# Altium schematic symbol library Demo.SchLib: 20 symbols
Pins are listed as number, name and electrical type; pins without a type are passive.

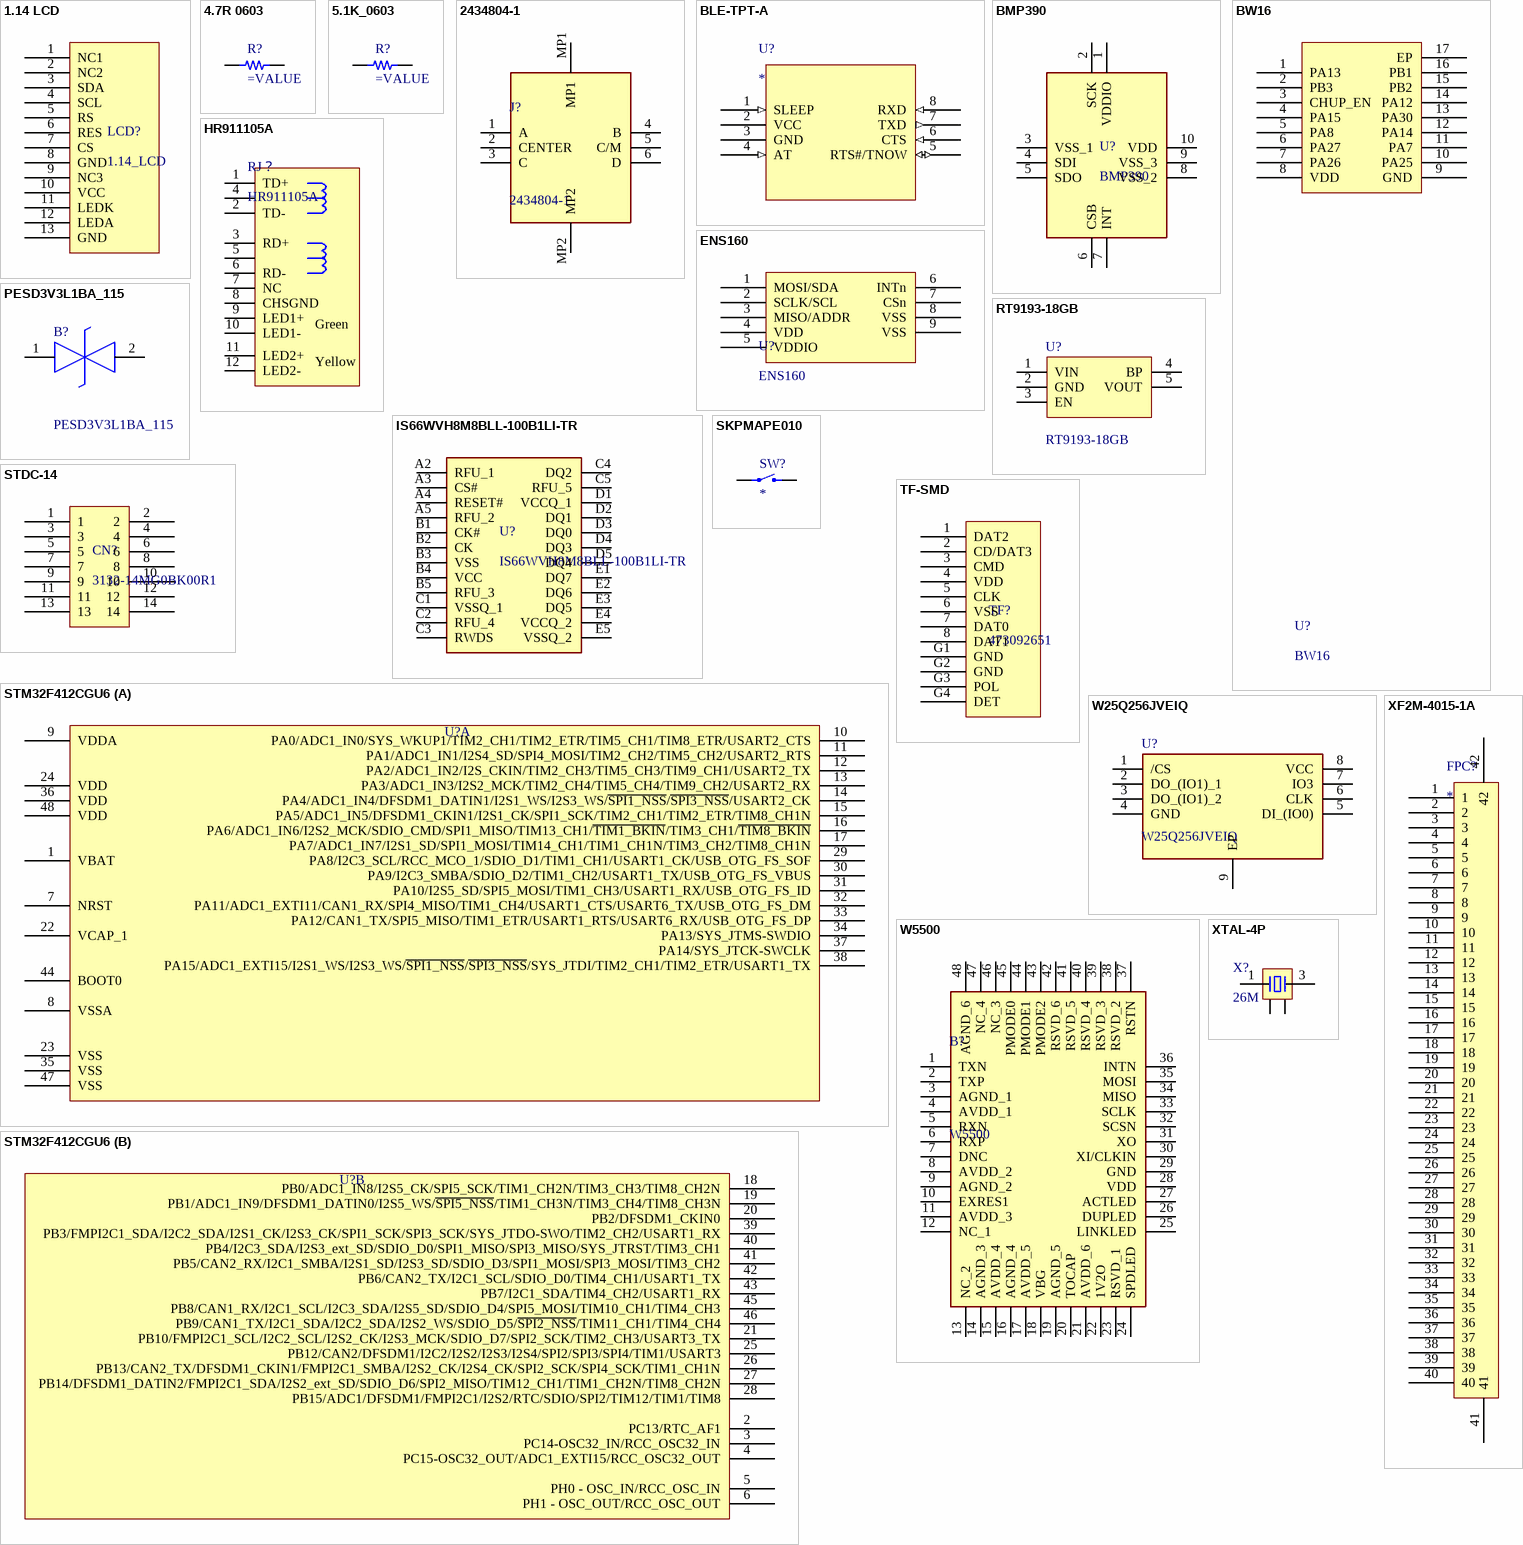
[diagram p0: symbols 1.14 LCD to XTAL-4P]

## 1.14 LCD
designator LCD?, comment 1.14_LCD
footprint 1.14_LCD
pins: 1 NC1, 2 NC2, 3 SDA, 4 SCL, 5 RS, 6 RES, 7 CS, 8 GND, 9 NC3, 10 VCC, 11 LEDK, 12 LEDA, 13 GND

## 4.7R 0603
designator R?
SMT Resistor
footprint 4.7R (Footprint not found)
pins: 1, 2

## 5.1K_0603
designator R?
SMT Resistor
footprint 5.1K_0603
pins: 1, 2

## 2434804-1
designator J?
Tactile Switches, Extended, Top Actuator Style, NO, Stainless Steel, Silver, Low Profile, 50 mA, 12 VDC; Manufacturer_Name: TE Connectivity; Geometry.Height: 5.7mm; Manufacturer_Part_Number: 2434804-1; Mouser Part Number: 655-2434804-1; Mouser Price/Stock: https://www.mouser.co.uk/ProductDetail/TE-Connectivity-Alcoswitch/2434804-1?qs=amGC7iS6iy%2Ff1nJtCucIMQ%3D%3D; Arrow Part Number: *; Arrow Price/Stock: *; Datasheet Link: https://www.te.com/commerce/DocumentDelivery/DDEController?Action=showdoc&DocId=Customer+Drawing%7F2434804%7FA%7Fpdf%7FEnglish%7FENG_CD_2434804_A.pdf%7F2434804-1
footprint 24348041
pins: 1 A, 2 CENTER, 3 C, 4 B, 5 C/M, 6 D, MP1, MP2

## BLE-TPT-A
designator U?
BLE/UART transparent transmission module, 8 pins
footprint BLEMOD-R1-1v1-8PIN
pins: 1 SLEEP (in), 2 VCC (power), 3 GND (power), 4 AT (in), 5 RTS#/TNOW (io), 6 CTS (in), 7 TXD (out), 8 RXD (in)

## BMP390
designator U?
Board Mount Pressure Sensors
footprint BMP390
pins: 1 VDDIO, 2 SCK, 3 VSS_1, 4 SDI, 5 SDO, 6 CSB, 7 INT, 8 VSS_2, 9 VSS_3, 10 VDD

## BW16
designator U?
footprint BW16
pins: 1 PA13, 2 PB3, 3 CHUP_EN, 4 PA15, 5 PA8, 6 PA27, 7 PA26, 8 VDD, 9 GND, 10 PA25, 11 PA7, 12 PA14, 13 PA30, 14 PA12, 15 PB2, 16 PB1, 17 EP

## ENS160
designator U?
footprint ENS_160
pins: 1 MOSI/SDA, 2 SCLK/SCL, 3 MISO/ADDR, 4 VDD, 5 VDDIO, 6 INTn, 7 CSn, 8 VSS, 9 VSS

## HR911105A
designator RJ？
带灯以太网接口; 版权归属: 源创客; BOM名称: 带灯以太网接口; 学习资源: www.ooocke.com
footprint RJ-45A12 (网线接口)
pins: 1 TD+, 2 TD-, 3 RD+, 4, 5, 6 RD-, 7 NC, 8 CHSGND, 9 LED1+, 10 LED1-, 11 LED2+, 12 LED2-
text: Green; Yellow

## IS66WVH8M8BLL-100B1LI-TR
designator U?
INTEGRATED SILICON SOLUTION (ISSI) - IS66WVH8M8BLL-100B1LI-TR - 64MB, HYPERRAM, 8MBX8, 3.0V, 100MHZ, 24-BALL TFBGA, ROHS
footprint BGA24C100P5X5_600X800X120
pins: A2 RFU_1, A3 CS#, A4 RESET#, A5 RFU_2, B1 CK#, B2 CK, B3 VSS, B4 VCC, B5 RFU_3, C1 VSSQ_1, C2 RFU_4, C3 RWDS, C4 DQ2, C5 RFU_5, D1 VCCQ_1, D2 DQ1, D3 DQ0, D4 DQ3, D5 DQ4, E1 DQ7, E2 DQ6, E3 DQ5, E4 VCCQ_2, E5 VSSQ_2

## PESD3V3L1BA_115
designator B?
PESD3V3L1BA - Low capacitance bidirectional ESD protection diode in SOD323; Manufacturer_Name: Nexperia; Manufacturer_Part_Number: PESD3V3L1BA,115; Geometry.Height: 1.1mm; Mouser Part Number: 771-PESD3V3L1BA-T/R; Mouser Price/Stock: https://www.mouser.co.uk/ProductDetail/Nexperia/PESD3V3L1BA115?qs=LOCUfHb8d9tfcQwAsqvzKg%3D%3D; Arrow Part Number: PESD3V3L1BA,115; Arrow Price/Stock: https://www.arrow.com/en/products/pesd3v3l1ba115/nexperia?region=nac; Datasheet Link: https://assets.nexperia.com/documents/data-sheet/PESDXL1BA_SER.pdf
footprint SOD2512X110N
pins: 1 K1, 2 K2

## RT9193-18GB
designator U?
IC REG LINEAR 1.8V 300MA SOT23-5; Manufacturer_Name: RICHTEK; Geometry.Height: 1.295mm; Manufacturer_Part_Number: RT9193-18GB; Mouser Part Number: *; Mouser Price/Stock: *; Arrow Part Number: *; Arrow Price/Stock: *; Datasheet Link: http://www.richtek.com/assets/product_file/RT9193/DS9193-17.pdf
footprint SOT94P279X130-5N
pins: 1 VIN, 2 GND, 3 EN, 4 BP, 5 VOUT

## SKPMAPE010
designator SW?
footprint KEY-SMD_2P-L6.0-W6.0-P6.00
pins: 1, 2

## STDC-14
designator CN?, comment 3132-14MG0BK00R1
footprint STDC14 Header
pins: 1, 2, 3, 4, 5, 6, 7, 8, 9, 10, 11, 12, 13, 14

## STM32F412CGU6
designator U?  (value not drawn)
part A pins: 1 VBAT, 7 NRST, 8 VSSA, 9 VDDA, 10 PA0/ADC1_IN0/SYS_WKUP1/TIM2_CH1/TIM2_ETR/TIM5_CH1/TIM8_ETR/USART2_CTS, 11 PA1/ADC1_IN1/I2S4_SD/SPI4_MOSI/TIM2_CH2/TIM5_CH2/USART2_RTS, 12 PA2/ADC1_IN2/I2S_CKIN/TIM2_CH3/TIM5_CH3/TIM9_CH1/USART2_TX, 13 PA3/ADC1_IN3/I2S2_MCK/TIM2_CH4/TIM5_CH4/TIM9_CH2/USART2_RX, 14 PA4/ADC1_IN4/DFSDM1_DATIN1/I2S1_WS/I2S3_WS/~{SPI1_NSS}/~{SPI3_NSS}/USART2_CK, 15 PA5/ADC1_IN5/DFSDM1_CKIN1/I2S1_CK/SPI1_SCK/TIM2_CH1/TIM2_ETR/TIM8_CH1N, 16 PA6/ADC1_IN6/I2S2_MCK/SDIO_CMD/SPI1_MISO/TIM13_CH1/~{TIM1_BKIN}/TIM3_CH1/~{TIM8_BKIN}, 17 PA7/ADC1_IN7/I2S1_SD/SPI1_MOSI/TIM14_CH1/TIM1_CH1N/TIM3_CH2/TIM8_CH1N, 22 VCAP_1, 23 VSS, 24 VDD, 29 PA8/I2C3_SCL/RCC_MCO_1/SDIO_D1/TIM1_CH1/USART1_CK/USB_OTG_FS_SOF, 30 PA9/I2C3_SMBA/SDIO_D2/TIM1_CH2/USART1_TX/USB_OTG_FS_VBUS, 31 PA10/I2S5_SD/SPI5_MOSI/TIM1_CH3/USART1_RX/USB_OTG_FS_ID, 32 PA11/ADC1_EXTI11/CAN1_RX/SPI4_MISO/TIM1_CH4/USART1_CTS/USART6_TX/USB_OTG_FS_DM, 33 PA12/CAN1_TX/SPI5_MISO/TIM1_ETR/USART1_RTS/USART6_RX/USB_OTG_FS_DP, 34 PA13/SYS_JTMS-SWDIO, 35 VSS, 36 VDD, 37 PA14/SYS_JTCK-SWCLK, 38 PA15/ADC1_EXTI15/I2S1_WS/I2S3_WS/~{SPI1_NSS}/~{SPI3_NSS}/SYS_JTDI/TIM2_CH1/TIM2_ETR/USART1_TX, 44 BOOT0, 47 VSS, 48 VDD
part B pins: 2 PC13/RTC_AF1, 3 PC14-OSC32_IN/RCC_OSC32_IN, 4 PC15-OSC32_OUT/ADC1_EXTI15/RCC_OSC32_OUT, 5 PH0 - OSC_IN/RCC_OSC_IN, 6 PH1 - OSC_OUT/RCC_OSC_OUT, 18 PB0/ADC1_IN8/I2S5_CK/SPI5_SCK/TIM1_CH2N/TIM3_CH3/TIM8_CH2N, 19 PB1/ADC1_IN9/DFSDM1_DATIN0/I2S5_WS/~{SPI5_NSS}/TIM1_CH3N/TIM3_CH4/TIM8_CH3N, 20 PB2/DFSDM1_CKIN0, 21 PB10/FMPI2C1_SCL/I2C2_SCL/I2S2_CK/I2S3_MCK/SDIO_D7/SPI2_SCK/TIM2_CH3/USART3_TX, 25 PB12/CAN2/DFSDM1/I2C2/I2S2/I2S3/I2S4/SPI2/SPI3/SPI4/TIM1/USART3, 26 PB13/CAN2_TX/DFSDM1_CKIN1/FMPI2C1_SMBA/I2S2_CK/I2S4_CK/SPI2_SCK/SPI4_SCK/TIM1_CH1N, 27 PB14/DFSDM1_DATIN2/FMPI2C1_SDA/I2S2_ext_SD/SDIO_D6/SPI2_MISO/TIM12_CH1/TIM1_CH2N/TIM8_CH2N, 28 PB15/ADC1/DFSDM1/FMPI2C1/I2S2/RTC/SDIO/SPI2/TIM12/TIM1/TIM8, 39 PB3/FMPI2C1_SDA/I2C2_SDA/I2S1_CK/I2S3_CK/SPI1_SCK/SPI3_SCK/SYS_JTDO-SWO/TIM2_CH2/USART1_RX, 40 PB4/I2C3_SDA/I2S3_ext_SD/SDIO_D0/SPI1_MISO/SPI3_MISO/SYS_JTRST/TIM3_CH1, 41 PB5/CAN2_RX/I2C1_SMBA/I2S1_SD/I2S3_SD/SDIO_D3/SPI1_MOSI/SPI3_MOSI/TIM3_CH2, 42 PB6/CAN2_TX/I2C1_SCL/SDIO_D0/TIM4_CH1/USART1_TX, 43 PB7/I2C1_SDA/TIM4_CH2/USART1_RX, 45 PB8/CAN1_RX/I2C1_SCL/I2C3_SDA/I2S5_SD/SDIO_D4/SPI5_MOSI/TIM10_CH1/TIM4_CH3, 46 PB9/CAN1_TX/I2C1_SDA/I2C2_SDA/I2S2_WS/SDIO_D5/~{SPI2_NSS}/TIM11_CH1/TIM4_CH4

## TF-SMD
designator TF?, comment 473092651
footprint TF-SMD_47309-2285
pins: 1 DAT2, 2 CD/DAT3, 3 CMD, 4 VDD, 5 CLK, 6 VSS, 7 DAT0, 8 DAT1, G1 GND, G2 GND, G3 POL, G4 DET

## W25Q256JVEIQ
designator U?
256M-bit Serial Flash Memory with uniform 4KB sectors and Dual/Quad SPI; Manufacturer_Name: Winbond; Geometry.Height: 0.8mm; Manufacturer_Part_Number: W25Q256JVEIQ; Mouser Part Number: 454-W25Q256JVEIQ; Mouser Price/Stock: https://www.mouser.co.uk/ProductDetail/Winbond/W25Q256JVEIQ?qs=qSfuJ%252Bfl%2Fd4o%2FNFUf7yCgA%3D%3D; Arrow Part Number: W25Q256JVEIQ; Arrow Price/Stock: https://www.arrow.com/en/products/w25q256jveiq/winbond-electronics?region=nac; Datasheet Link: https://www.winbond.com/hq/search-resource-file.jsp?partNo=W25Q256JVEIQ&type=datasheet
footprint SON127P800X600X80-9N-D
footprint W25Q256JVEIQ
pins: 1 /CS, 2 DO_(IO1)_1, 3 DO_(IO1)_2, 4 GND, 5 DI_(IO0), 6 CLK, 7 IO3, 8 VCC, 9 EP

## W5500
designator B?
Ethernet ICs 3in1 Enet Controller TCP/IP +MAC+PHY; Manufacturer_Name: WIZnet Inc; Geometry.Height: 1.6mm; Manufacturer_Part_Number: W5500; Mouser Part Number: 950-W5500; Mouser Price/Stock: https://www.mouser.co.uk/ProductDetail/WIZnet/W5500?qs=2vh%252B45pPFtzthUpYPd4pqA%3D%3D; Arrow Part Number: *; Arrow Price/Stock: *; Datasheet Link: http://wizwiki.net/wiki/lib/exe/fetch.php?media=products:w5500:w5500_ds_v106e_141230.pdf
footprint W5500
pins: 1 TXN, 2 TXP, 3 AGND_1, 4 AVDD_1, 5 RXN, 6 RXP, 7 DNC, 8 AVDD_2, 9 AGND_2, 10 EXRES1, 11 AVDD_3, 12 NC_1, 13 NC_2, 14 AGND_3, 15 AVDD_4, 16 AGND_4, 17 AVDD_5, 18 VBG, 19 AGND_5, 20 TOCAP, 21 AVDD_6, 22 1V2O, 23 RSVD_1, 24 SPDLED, 25 LINKLED, 26 DUPLED, 27 ACTLED, 28 VDD, 29 GND, 30 XI/CLKIN, 31 XO, 32 SCSN, 33 SCLK, 34 MISO, 35 MOSI, 36 INTN, 37 RSTN, 38 RSVD_2, 39 RSVD_3, 40 RSVD_4, 41 RSVD_5, 42 RSVD_6, 43 PMODE2, 44 PMODE1, 45 PMODE0, 46 NC_3, 47 NC_4, 48 AGND_6

## XF2M-4015-1A
designator FPC?
40Pin FPC, Omron
footprint XF2M-4015-1A (Used for 40 Pin, ILI9488 LCD)
pins: 1, 2, 3, 4, 5, 6, 7, 8, 9, 10, 11, 12, 13, 14, 15, 16, 17, 18, 19, 20, 21, 22, 23, 24, 25, 26, 27, 28, 29, 30, 31, 32, 33, 34, 35, 36, 37, 38, 39, 40, 41, 42

## XTAL-4P
designator X?, comment 26M
4脚无源晶振; 版权归属: 源创客; BOM名称: 4脚无源晶振; 学习资源: www.ooocke.com
footprint OSC 3225-4P (3.2*2.5*0.7mm(长宽高))
pins: 1, 2, 3, 4